# Altium footprint library CAMERA_PcbLib.PcbLib: 19 footprints (part 1 of 2)
Each footprint in its own frame and in the unit in brackets; x right, y up, seen from the top. Pads: shape width x height; smd on the part's side, far side on the other; paste and mask are expansions set on the pad; w line width, h text height; cw(c..) or ccw(c..) is an arc to the next point about the centre after c.
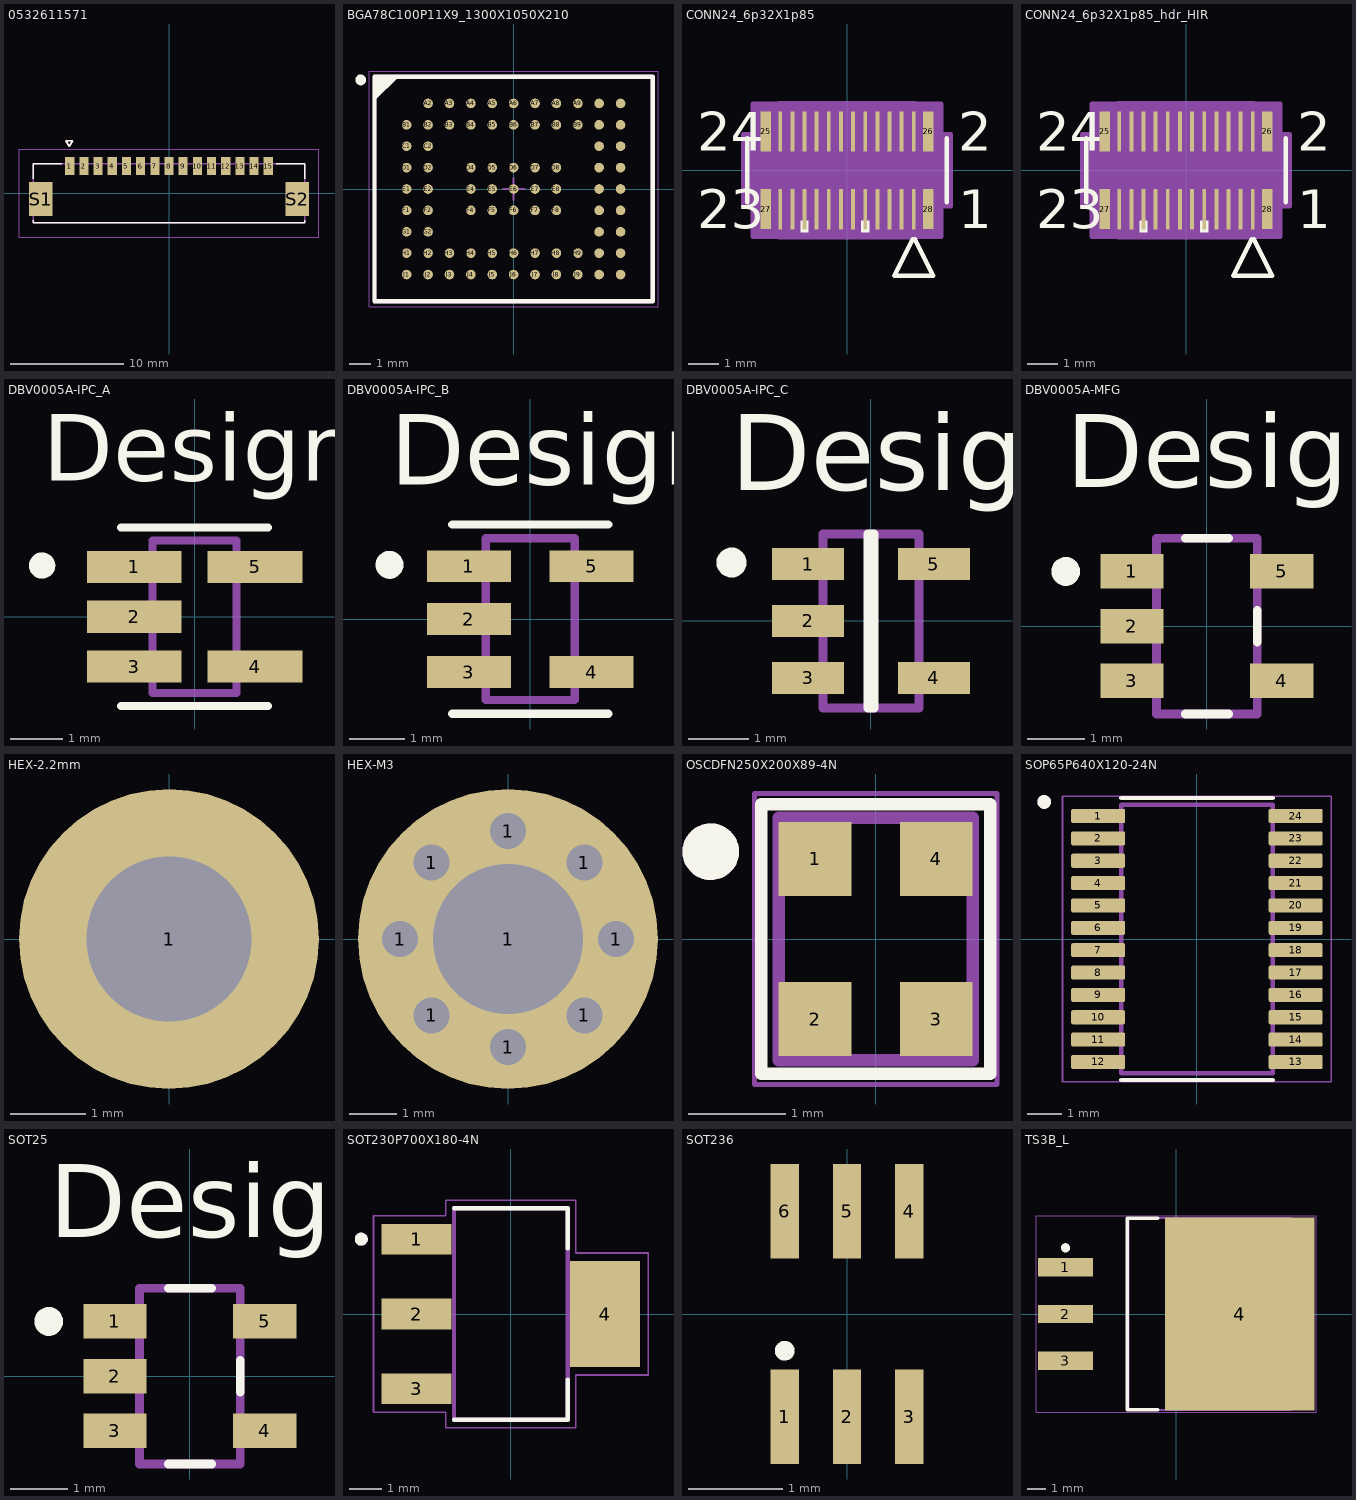
[diagram p0: the footprints below, top view; thin cyan lines are the x and y axes]

## 0532611571 [mm]
height 3.4
pads (17):
  rect 0.8x1.6 smd mask+0.076: 1(-8.75,2.4) 2(-7.5,2.4) 3(-6.25,2.4) 4(-5,2.4) 5(-3.75,2.4) 6(-2.5,2.4) 7(-1.25,2.4) 8(0,2.4) 9(1.25,2.4) 10(2.5,2.4) 11(3.75,2.4) 12(5,2.4) 13(6.25,2.4) 14(7.5,2.4) 15(8.75,2.4)
  rect 2.1x3 smd mask+0.076: S1(-11.3,-0.5) S2(11.3,-0.5)
Top Overlay:
  lines w0.127: -11.95,-2.35 -11.95,-2.6 11.95,-2.6 11.95,-2.35 ; -11.95,1.3 -11.95,2.6 -9.47,2.6 ; 9.47,2.6 11.95,2.6 11.95,1.3 ; -9.088,4.642 -8.788,4.142 -8.488,4.642 -9.088,4.642
Mechanical 13:
  lines w0.127: -11.95,-2.6 -11.95,2.6 11.95,2.6 11.95,-2.6 -11.95,-2.6 ; -9.088,4.642 -8.788,4.142 -8.488,4.642 -9.088,4.642
Mechanical 15:
  lines w0.05: -13.22,-3.87 -13.22,3.87 13.22,3.87 13.22,-3.87 -13.22,-3.87
3D body "532611571.stp": height 3.45, standoff 0.05, extent -11.95,-2.607 11.95,2.593

## BGA78C100P11X9_1300X1050X210 [mm] "BGA, 78-Leads, Body 13.00x10.50mmx2.10mm, Pitch 1.00mm"
height 2.1
pads (78):
  round 0.45 smd: A2(-4,4) A3(-3,4) A4(-2,4) A5(-1,4) A6(0,4) A7(1,4) A8(2,4) A9(3,4) A10(4,4) A11(5,4) B1(-5,3) B2(-4,3) B3(-3,3) B4(-2,3) B5(-1,3) B6(0,3) B7(1,3) B8(2,3) B9(3,3) B10(4,3) B11(5,3) C1(-5,2) C2(-4,2) C10(4,2) C11(5,2) D1(-5,1) D2(-4,1) D4(-2,1) D5(-1,1) D6(0,1) D7(1,1) D8(2,1) D10(4,1) D11(5,1) E1(-5,0) E2(-4,0) E4(-2,0) E5(-1,0) E6(0,0) E7(1,0) E8(2,0) E10(4,0) E11(5,0) F1(-5,-1) F2(-4,-1) F4(-2,-1) F5(-1,-1) F6(0,-1) F7(1,-1) F8(2,-1) F10(4,-1) F11(5,-1) G1(-5,-2) G2(-4,-2) G10(4,-2) G11(5,-2) H1(-5,-3) H2(-4,-3) H3(-3,-3) H4(-2,-3) H5(-1,-3) H6(0,-3) H7(1,-3) H8(2,-3) H9(3,-3) H10(4,-3) H11(5,-3) J1(-5,-4) J2(-4,-4) J3(-3,-4) J4(-2,-4) J5(-1,-4) J6(0,-4) J7(1,-4) J8(2,-4) J9(3,-4) J10(4,-4) J11(5,-4)
Top Overlay:
  circle w0.25: c-7.15,5.1 r0.125
  region: -5.5,5.25 -6.5,4.25 -6.5,5.25
  lines w0.2: -6.5,4.25 -5.5,5.25 ; -6.5,-5.25 6.5,-5.25 6.5,5.25 -6.5,5.25 -6.5,-5.25
Top Courtyard:
  lines w0.05: -6.75,-5.5 6.75,-5.5 6.75,5.5 -6.75,5.5 -6.75,-5.5
  lines w0.1: -0.5,0 0.5,0 ; 0,-0.5 0,0.5
Top Assembly:
  lines w0.2: -6.5,-5.25 6.5,-5.25 6.5,5.25 -6.5,5.25 -6.5,-5.25
3D body "BGA78C100P11X9_1300X1050X210.step": height 2.1, standoff 0, extent -6.5,-5.25 6.5,5.25

## CONN24_6p32X1p85 [mil]
pads (28):
  rect 5x52 smd paste+0 mask+0: 1(86.61,-50.5) 2(86.61,50.5) 3(70.87,-50.5) 4(70.87,50.5) 5(55.12,-50.5) 6(55.12,50.5) 7(39.37,-50.5) 8(39.37,50.5) 9(23.62,-50.5) 10(23.62,50.5) 11(7.87,-50.5) 12(7.87,50.5) 13(-7.87,-50.5) 14(-7.87,50.5) 15(-23.62,-50.5) 16(-23.62,50.5) 17(-39.37,-50.5) 18(-39.37,50.5) 19(-55.12,-50.5) 20(-55.12,50.5) 21(-70.87,-50.5) 22(-70.87,50.5) 23(-86.61,-50.5) 24(-86.61,50.5)
  rect 14x52 smd paste-26 mask-26: 25(-105.31,50.35) 26(105.31,50.35) 27(-105.31,-50.35) 28(105.31,-50.35)
Top Overlay:
  region: 28.62,-65.5 18.62,-65.5 18.62,-80.5 28.62,-80.5
  region: -50.12,-65.5 -60.12,-65.5 -60.12,-80.5 -50.12,-80.5
  lines w6: -129.5,-41.5 -129.5,41.5 ; 85.11,-89.6 61.61,-136.6 111.61,-136.6 88.11,-89.6 ; 129.5,-41.5 129.5,41.5
  text "2" at 144.5,25.5 h50
  text "1" at 144.5,-75.5 h50
  text "24" at -194.5,25.5 h50
  text "23" at -194.5,-75.5 h50
Mechanical 13:
  lines w1: -124.5,-36.5 124.5,-36.5 124.5,36.5 -124.5,36.5 -124.5,-36.5 ; 61.61,-136.6 86.61,-86.6 111.61,-136.6 61.61,-136.6
  text "2" at 144.5,25.5 h50
  text "1" at 144.5,-75.5 h50
  text "24" at -194.5,25.5 h50
  text "23" at -194.5,-75.5 h50
Mechanical 15:
  region: -120.31,87.85 -120.31,48 -132.5,48 -132.5,-45 -120.31,-45 -120.31,-84.85 -86.31,-84.85 -86.31,-85 90.31,-85 90.31,-84.85 124.31,-84.85 124.31,-45 136.5,-45 136.5,48 124.31,48 124.31,87.85 90.31,87.85 90.31,88 -86.31,88 -86.31,87.85
  lines w6: -134.5,-46.5 -134.5,46.5 -122.31,46.5 -122.31,86.35 -88.31,86.35 -88.31,86.5 88.31,86.5 88.31,86.35 122.31,86.35 122.31,46.5 134.5,46.5 134.5,-46.5 122.31,-46.5 122.31,-86.35 88.31,-86.35 88.31,-86.5 -88.31,-86.5 -88.31,-86.35 -122.31,-86.35 -122.31,-46.5 -134.5,-46.5
3D body "DF40C-24DS-0.4V_51_.stp": height 55.12, standoff -1.97, extent -145.67,-66.54 145.67,66.54

## CONN24_6p32X1p85_hdr_HIR [mil]
pads (28):
  rect 5x52 smd paste+0 mask+0: 1(86.61,-50.5) 2(86.61,50.5) 3(70.87,-50.5) 4(70.87,50.5) 5(55.12,-50.5) 6(55.12,50.5) 7(39.37,-50.5) 8(39.37,50.5) 9(23.62,-50.5) 10(23.62,50.5) 11(7.87,-50.5) 12(7.87,50.5) 13(-7.87,-50.5) 14(-7.87,50.5) 15(-23.62,-50.5) 16(-23.62,50.5) 17(-39.37,-50.5) 18(-39.37,50.5) 19(-55.12,-50.5) 20(-55.12,50.5) 21(-70.87,-50.5) 22(-70.87,50.5) 23(-86.61,-50.5) 24(-86.61,50.5)
  rect 14x52 smd paste-26 mask-26: 25(-105.31,50.35) 26(105.31,50.35) 27(-105.31,-50.35) 28(105.31,-50.35)
Top Overlay:
  region: 28.62,-65.5 18.62,-65.5 18.62,-80.5 28.62,-80.5
  region: -50.12,-65.5 -60.12,-65.5 -60.12,-80.5 -50.12,-80.5
  lines w6: -129.5,-41.5 -129.5,41.5 ; 85.11,-89.6 61.61,-136.6 111.61,-136.6 88.11,-89.6 ; 129.5,-41.5 129.5,41.5
  text "2" at 144.5,25.5 h50
  text "1" at 144.5,-75.5 h50
  text "24" at -194.5,25.5 h50
  text "23" at -194.5,-75.5 h50
Mechanical 13:
  lines w1: -124.5,-36.5 124.5,-36.5 124.5,36.5 -124.5,36.5 -124.5,-36.5 ; 61.61,-136.6 86.61,-86.6 111.61,-136.6 61.61,-136.6
  text "2" at 144.5,25.5 h50
  text "1" at 144.5,-75.5 h50
  text "24" at -194.5,25.5 h50
  text "23" at -194.5,-75.5 h50
Mechanical 15:
  region: -120.31,87.85 -120.31,48 -132.5,48 -132.5,-45 -120.31,-45 -120.31,-84.85 -86.31,-84.85 -86.31,-85 90.31,-85 90.31,-84.85 124.31,-84.85 124.31,-45 136.5,-45 136.5,48 124.31,48 124.31,87.85 90.31,87.85 90.31,88 -86.31,88 -86.31,87.85
  lines w6: -134.5,-46.5 -134.5,46.5 -122.31,46.5 -122.31,86.35 -88.31,86.35 -88.31,86.5 88.31,86.5 88.31,86.35 122.31,86.35 122.31,46.5 134.5,46.5 134.5,-46.5 122.31,-46.5 122.31,-86.35 88.31,-86.35 88.31,-86.5 -88.31,-86.5 -88.31,-86.35 -122.31,-86.35 -122.31,-46.5 -134.5,-46.5
3D body "DF40C-24DP-0.4V_51_.stp": height 44.88, standoff 0, extent -124.41,-58.46 124.41,58.46

## DBV0005A-IPC_A [mm]
pads (5):
  rect 1.805x0.612 smd paste+0 mask+0: 1(-1.15,0.95) 2(-1.15,0) 3(-1.15,-0.95) 4(1.15,-0.95) 5(1.15,0.95)
Top Overlay:
  circle w0.25: c-2.903,0.975 r0.125
  lines w0.15: -1.4,-1.7 1.4,-1.7 ; -1.4,1.7 1.4,1.7
  text "Designator74" at -2.896,2.591 h1.27
Mechanical 13:
  lines w0.15: -0.8,-1.45 -0.8,1.45 0.8,1.45 0.8,-1.45 -0.8,-1.45

## DBV0005A-IPC_B [mm]
pads (5):
  rect 1.505x0.572 smd paste+0 mask+0: 1(-1.1,0.95) 2(-1.1,0) 3(-1.1,-0.95) 4(1.1,-0.95) 5(1.1,0.95)
Top Overlay:
  circle w0.25: c-2.528,0.975 r0.125
  lines w0.15: -1.4,-1.7 1.4,-1.7 ; -1.4,1.7 1.4,1.7
  text "Designator73" at -2.515,2.413 h1.27
Mechanical 13:
  lines w0.15: -0.8,-1.45 0.8,-1.45 0.8,1.45 -0.8,1.45 -0.8,-1.45

## DBV0005A-IPC_C [mm]
pads (5):
  rect 1.205x0.532 smd paste+0 mask+0: 1(-1.05,0.95) 2(-1.05,0) 3(-1.05,-0.95) 4(1.05,-0.95) 5(1.05,0.95)
Top Overlay:
  circle w0.25: c-2.328,0.975 r0.125
  lines w0.15: -0.052,-1.45 0.052,-1.45 0.052,1.45 -0.052,1.45 -0.052,-1.45
  text "Designator72" at -2.337,2.184 h1.27
Mechanical 13:
  lines w0.15: -0.8,-1.45 -0.8,1.45 0.8,1.45 0.8,-1.45 -0.8,-1.45

## DBV0005A-MFG [mm]
pads (5):
  rect 1.1x0.6 smd paste+0 mask+0: 1(-1.3,0.95) 2(-1.3,0) 3(-1.3,-0.95) 4(1.3,-0.95) 5(1.3,0.95)
Top Overlay:
  circle w0.25: c-2.45,0.95 r0.125
  lines w0.15: -0.375,-1.525 0.375,-1.525 ; -0.375,1.525 0.375,1.525 ; 0.875,-0.275 0.875,0.275
  text "Designator71" at -2.438,2.413 h1.27
Mechanical 13:
  lines w0.15: -0.875,-1.525 -0.875,1.525 0.875,1.525 0.875,-1.525 -0.875,-1.525

## HEX-2.2mm [mm]
pads (1):
  round 4 hole 2.2: 1(0,0)

## HEX-M3 [mil]
pads (9):
  round 60 hole 30 mask+0: 1(-90,0) 1(-63.64,-63.64) 1(-63.64,63.64) 1(0,-90) 1(0,90) 1(63.64,-63.64) 1(63.64,63.64) 1(90,0)
  round 250 hole 125.2: 1(0,0)

## OSCDFN250X200X89-4N [mm]
pads (4):
  rect 0.75x0.76 smd: 1(-0.625,0.825) 2(-0.625,-0.825) 3(0.625,-0.825) 4(0.625,0.825)
Top Overlay:
  circle w0.3: c-1.7,0.9 r0.141
  lines w0.127: -1.18,-1.39 -1.18,1.39 1.18,1.39 1.18,-1.39 -1.18,-1.39
Mechanical 13:
  circle w0.3: c-1.7,0.9 r0.141
  lines w0.127: -1,-1.25 -1,1.25 1,1.25 1,-1.25 -1,-1.25
Mechanical 15:
  lines w0.05: -1.25,-1.5 -1.25,1.5 1.25,1.5 1.25,-1.5 -1.25,-1.5

## SOP65P640X120-24N [mm]
pads (24):
  rrect25% 1.57x0.41 smd: 1(-2.87,3.575) 2(-2.87,2.925) 3(-2.87,2.275) 4(-2.87,1.625) 5(-2.87,0.975) 6(-2.87,0.325) 7(-2.87,-0.325) 8(-2.87,-0.975) 9(-2.87,-1.625) 10(-2.87,-2.275) 11(-2.87,-2.925) 12(-2.87,-3.575) 13(2.87,-3.575) 14(2.87,-2.925) 15(2.87,-2.275) 16(2.87,-1.625) 17(2.87,-0.975) 18(2.87,-0.325) 19(2.87,0.325) 20(2.87,0.975) 21(2.87,1.625) 22(2.87,2.275) 23(2.87,2.925) 24(2.87,3.575)
Top Overlay:
  circle w0.2: c-4.44,3.985 r0.1
  lines w0.127: -2.2,-4.1 2.2,-4.1 ; -2.2,4.1 2.2,4.1
Mechanical 13:
  circle w0.2: c-4.44,3.985 r0.1
  lines w0.127: -2.2,-3.9 -2.2,3.9 2.2,3.9 2.2,-3.9 -2.2,-3.9
Mechanical 15:
  lines w0.05: -3.905,-4.15 -3.905,4.15 3.905,4.15 3.905,-4.15 -3.905,-4.15
3D body "TCA6416APWR.step": height 1.2, standoff 0, extent -3.2,-3.9 3.2,3.9

## SOT25 [mm]
pads (5):
  rect 1.1x0.6 smd paste+0 mask+0: 1(-1.3,0.95) 2(-1.3,0) 3(-1.3,-0.95) 4(1.3,-0.95) 5(1.3,0.95)
Top Overlay:
  circle w0.25: c-2.45,0.95 r0.125
  lines w0.15: -0.375,-1.525 0.375,-1.525 ; -0.375,1.525 0.375,1.525 ; 0.875,-0.275 0.875,0.275
  text "Designator71" at -2.438,2.413 h1.27
Mechanical 13:
  lines w0.15: -0.875,-1.525 -0.875,1.525 0.875,1.525 0.875,-1.525 -0.875,-1.525

## SOT230P700X180-4N [mm]
pads (4):
  rect 2.15x0.95 smd: 1(-2.9,2.3) 2(-2.9,0) 3(-2.9,-2.3)
  rect 2.15x3.25 smd: 4(2.9,0)
Top Overlay:
  circle w0.2: c-4.6,2.3 r0.1
  lines w0.127: -1.75,-3.25 1.75,-3.25 1.75,-2.01 ; -1.75,3.25 1.75,3.25 1.75,2.01
Mechanical 13:
  circle w0.2: c-4.6,2.3 r0.1
  lines w0.127: -1.75,-3.25 -1.75,3.25 1.75,3.25 1.75,-3.25 -1.75,-3.25
Mechanical 15:
  lines w0.05: -4.225,-3.025 -4.225,3.025 -2,3.025 -2,3.5 2,3.5 2,1.875 4.225,1.875 4.225,-1.875 2,-1.875 2,-3.5 -2,-3.5 -2,-3.025 -4.225,-3.025
3D body "step_temp.STEP": height 1.8, standoff 0, extent -3.5,-3.25 3.5,3.25

## SOT236 [mm]
pads (6):
  rect 0.3x1 smd: 1(-0.66,-1.09) 2(0,-1.09) 3(0.66,-1.09) 4(0.66,1.09) 5(0,1.09) 6(-0.66,1.09)
Top Overlay:
  circle w0.05: c-0.66,-0.39 r0.01
  circle w0.05: c-0.66,-0.39 r0.022
  circle w0.05: c-0.66,-0.39 r0.032
  circle w0.05: c-0.66,-0.39 r0.081

## TS3B_L [mm]
pads (4):
  rect 3x1 smd: 1(-6,2.54) 2(-6,0) 3(-6,-2.54)
  rect 8.1x10.45 smd: 4(3.45,0)
Top Overlay:
  circle w0.25: c-6,3.59 r0.125
  lines w0.2: -1,-5.2 -2.65,-5.2 -2.65,5.2 -1,5.2
Top Assembly:
  lines w0.125: -1,-5.2 -2.6,-5.2 -2.6,5.2 -1,5.2
  text "'.Designator'" at -3.952,-0.622 h1.5
Mechanical 13:
  lines w0.1: -2.65,-5.2 -2.65,5.2 6.24,5.2 6.24,-5.2 -2.65,-5.2
Mechanical 15:
  lines w0.05: -7.6,-5.325 -7.6,5.325 7.6,5.325 7.6,-5.325 -7.6,-5.325
  lines w0.1: -0.5,0 0.5,0 ; 0,-0.5 0,0.5
Top Component Center:
  circle w0.05: c0,0 r0.3
  lines w0.05: -0.5,0 0.5,0 ; 0,-0.5 0,0.5
3D body: height 4.64, standoff 0, extent -2.65,-5.2 6.24,5.2